# EAGLE library part RTL8723BU (library nintendo-classic)
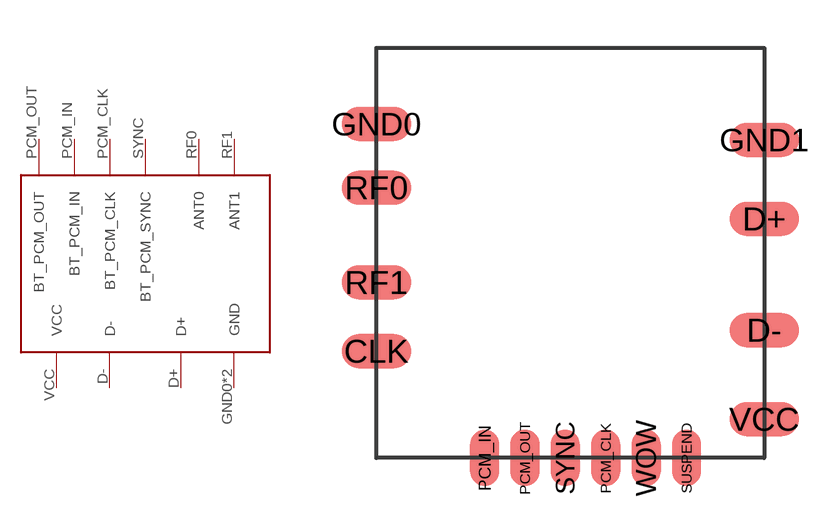
[diagram p7: symbol with the pads of RTL8723-MODULE; footprint RTL8723-MODULE]

Designator prefix -

## RTL8723BU  [RTL8723-MODULE]
D+  D+
D-  D-
GND0  GND
GND1  GND
PCM_CLK  BT_PCM_CLK
PCM_IN  BT_PCM_IN
PCM_OUT  BT_PCM_OUT
RF0  ANT0
RF1  ANT1
SYNC  BT_PCM_SYNC
VCC  VCC

## Footprint RTL8723-MODULE (pad centres in mm)
smd 2.184 x 1.067: CLK -6.095,-3.09; D+ 6.095,1.07; D- 6.095,-2.43; GND0 -6.095,4.05; GND1 6.095,3.55; RF0 -6.095,2.05; RF1 -6.095,-0.93; VCC 6.095,-5.23
smd 0.914 x 1.778: PCM_CLK 1.115,-6.45; PCM_IN -2.695,-6.45; PCM_OUT -1.425,-6.45; SUSPEND 3.655,-6.45; SYNC -0.155,-6.45; WOW 2.385,-6.45